# Altium schematic symbol library SWITCH_TACTILE-SPST.SchLib: 2 symbols
Pins are listed as number, name and electrical type; pins without a type are passive.

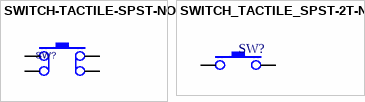
[diagram p0: symbols SWITCH-TACTILE-SPST-NO to SWITCH_TACTILE_SPST-2T-NO]

## SWITCH-TACTILE-SPST-NO
designator SW?  (value not drawn)
pins: 1, 2, 3, 4

## SWITCH_TACTILE_SPST-2T-NO
designator SW?  (value not drawn)
pins: 1, 2